# EAGLE library part TPS55340 (library TI)
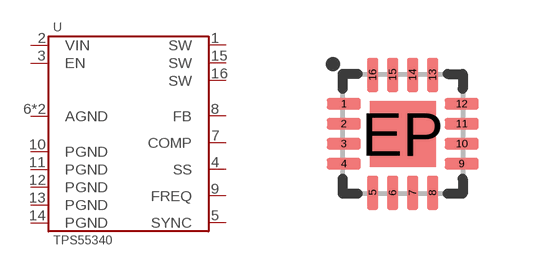
[diagram p33: symbol with the pads of QFN-16; footprint QFN-16]

Designator prefix U

## TPS55340RTER  [QFN-16]
1  SW
2  VIN
3  EN
4  SS
5  SYNC
6  AGND
7  COMP
8  FB
9  FREQ
10  PGND
11  PGND
12  PGND
13  PGND
14  PGND
15  SW
16  SW
EP  AGND

## Footprint QFN-16 (pad centres in mm)
smd 0.85 x 0.28: 1 -1.475,0.75; 2 -1.475,0.25; 3 -1.475,-0.25; 4 -1.475,-0.75; 9 1.475,-0.75; 10 1.475,-0.25; 11 1.475,0.25; 12 1.475,0.75
smd 0.28 x 0.85: 5 -0.75,-1.475; 6 -0.25,-1.475; 7 0.25,-1.475; 8 0.75,-1.475; 13 0.75,1.475; 14 0.25,1.475; 15 -0.25,1.475; 16 -0.75,1.475
smd 1.65 x 1.65: EP 0,0